# Altium footprint library Taiyo Yuden - Power Inductor, 4040TK.PcbLib: 1 footprints
Each footprint in its own frame and in the unit in brackets; x right, y up, seen from the top. Pads: shape width x height; smd on the part's side, far side on the other; paste and mask are expansions set on the pad; w line width, h text height; cw(c..) or ccw(c..) is an arc to the next point about the centre after c.
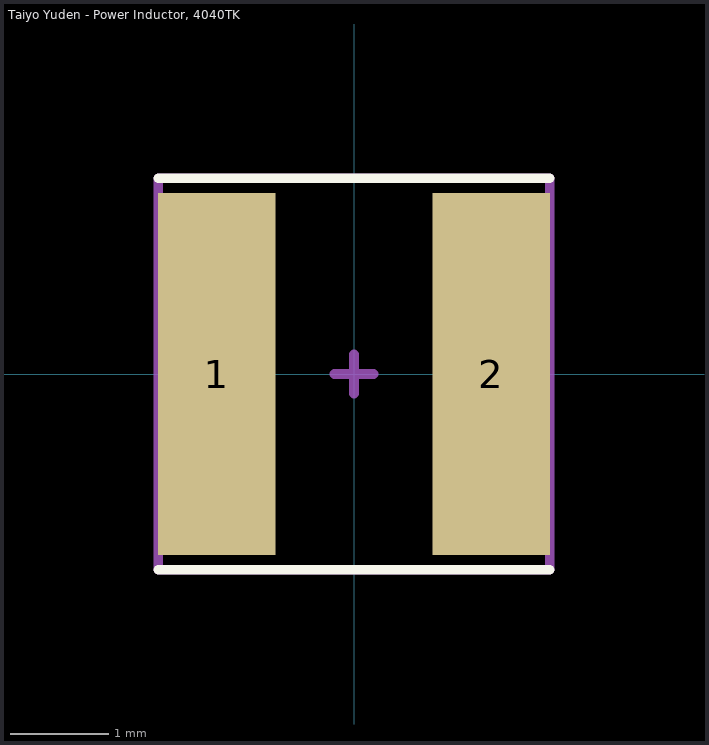
[diagram p0: the footprint, top view; thin cyan lines are the x and y axes]

## Taiyo Yuden - Power Inductor, 4040TK [mm] "Taiyo Yuden - Power Inductor, 4040TK"
height 1.8
pads (2):
  rect 1.2x3.7 smd mask+0.05: 1(-1.4,0) 2(1.4,0)
Top Overlay:
  lines w0.1: -2,-2 2,-2 ; -2,2 2,2
Top Assembly:
  lines w0.1: -2,-2 2,-2 2,2 -2,2 -2,-2
Top Designator:
  text ".Designator" at -2,-1.675 h1.2
Top Component Center:
  lines w0.1: -0.2,0 0.2,0 ; 0,-0.2 0,0.2
3D body "Taiyo Yuden - Power Inductor, 4040TK.step": height 1.2, standoff 0, extent -2,-2 2,2